# Altium footprint library LFBGA144N0.80P12X12_10.0X10.0X1.7-144_144.PcbLib: 1 footprints
Each footprint in its own frame and in the unit in brackets; x right, y up, seen from the top. Pads: shape width x height; smd on the part's side, far side on the other; paste and mask are expansions set on the pad; w line width, h text height; cw(c..) or ccw(c..) is an arc to the next point about the centre after c.
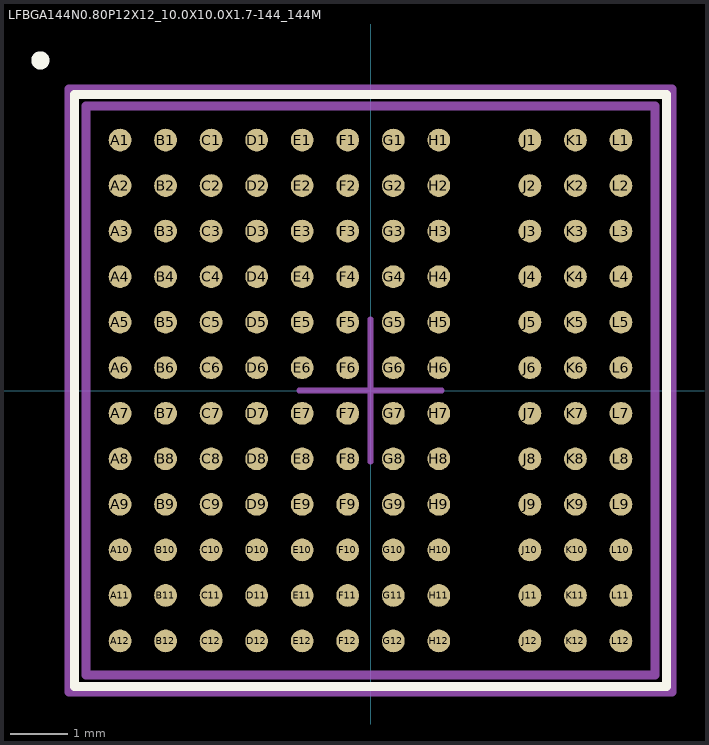
[diagram p0: the footprint, top view; thin cyan lines are the x and y axes]

## LFBGA144N0.80P12X12_10.0X10.0X1.7-144_144M [mm] "LFBGA 144 10x10x1.7 P 0.8 mm"
height 1.7
pads (132):
  round 0.4 smd: A1(-4.4,4.4) A2(-4.4,3.6) A3(-4.4,2.8) A4(-4.4,2) A5(-4.4,1.2) A6(-4.4,0.4) A7(-4.4,-0.4) A8(-4.4,-1.2) A9(-4.4,-2) A10(-4.4,-2.8) A11(-4.4,-3.6) A12(-4.4,-4.4) B1(-3.6,4.4) B2(-3.6,3.6) B3(-3.6,2.8) B4(-3.6,2) B5(-3.6,1.2) B6(-3.6,0.4) B7(-3.6,-0.4) B8(-3.6,-1.2) B9(-3.6,-2) B10(-3.6,-2.8) B11(-3.6,-3.6) B12(-3.6,-4.4) C1(-2.8,4.4) C2(-2.8,3.6) C3(-2.8,2.8) C4(-2.8,2) C5(-2.8,1.2) C6(-2.8,0.4) C7(-2.8,-0.4) C8(-2.8,-1.2) C9(-2.8,-2) C10(-2.8,-2.8) C11(-2.8,-3.6) C12(-2.8,-4.4) D1(-2,4.4) D2(-2,3.6) D3(-2,2.8) D4(-2,2) D5(-2,1.2) D6(-2,0.4) D7(-2,-0.4) D8(-2,-1.2) D9(-2,-2) D10(-2,-2.8) D11(-2,-3.6) D12(-2,-4.4) E1(-1.2,4.4) E2(-1.2,3.6) E3(-1.2,2.8) E4(-1.2,2) E5(-1.2,1.2) E6(-1.2,0.4) E7(-1.2,-0.4) E8(-1.2,-1.2) E9(-1.2,-2) E10(-1.2,-2.8) E11(-1.2,-3.6) E12(-1.2,-4.4) F1(-0.4,4.4) F2(-0.4,3.6) F3(-0.4,2.8) F4(-0.4,2) F5(-0.4,1.2) F6(-0.4,0.4) F7(-0.4,-0.4) F8(-0.4,-1.2) F9(-0.4,-2) F10(-0.4,-2.8) F11(-0.4,-3.6) F12(-0.4,-4.4) G1(0.4,4.4) G2(0.4,3.6) G3(0.4,2.8) G4(0.4,2) G5(0.4,1.2) G6(0.4,0.4) G7(0.4,-0.4) G8(0.4,-1.2) G9(0.4,-2) G10(0.4,-2.8) G11(0.4,-3.6) G12(0.4,-4.4) H1(1.2,4.4) H2(1.2,3.6) H3(1.2,2.8) H4(1.2,2) H5(1.2,1.2) H6(1.2,0.4) H7(1.2,-0.4) H8(1.2,-1.2) H9(1.2,-2) H10(1.2,-2.8) H11(1.2,-3.6) H12(1.2,-4.4) J1(2.8,4.4) J2(2.8,3.6) J3(2.8,2.8) J4(2.8,2) J5(2.8,1.2) J6(2.8,0.4) J7(2.8,-0.4) J8(2.8,-1.2) J9(2.8,-2) J10(2.8,-2.8) J11(2.8,-3.6) J12(2.8,-4.4) K1(3.6,4.4) K2(3.6,3.6) K3(3.6,2.8) K4(3.6,2) K5(3.6,1.2) K6(3.6,0.4) K7(3.6,-0.4) K8(3.6,-1.2) K9(3.6,-2) K10(3.6,-2.8) K11(3.6,-3.6) K12(3.6,-4.4) L1(4.4,4.4) L2(4.4,3.6) L3(4.4,2.8) L4(4.4,2) L5(4.4,1.2) L6(4.4,0.4) L7(4.4,-0.4) L8(4.4,-1.2) L9(4.4,-2) L10(4.4,-2.8) L11(4.4,-3.6) L12(4.4,-4.4)
Top Overlay:
  circle w0.16: c-5.8,5.8 r0.08
  lines w0.16: -5.2,-5.2 5.2,-5.2 5.2,5.2 -5.2,5.2 -5.2,-5.2
Top Component Center:
  lines w0.1: -1.25,0 1.25,0 ; 0,-1.25 0,1.25
Top Courtyard:
  lines w0.16: -5.3,-5.3 5.3,-5.3 5.3,5.3 -5.3,5.3 -5.3,-5.3
Top Assembly:
  lines w0.16: -5,-5 5,-5 5,5 -5,5 -5,-5
3D body "LFBGA144N0.80P12X12_10.0X10.0X1.7-144_144M.STEP": height 1.7, standoff 0, extent -5,-5 5,5